# EAGLE library part M10382 (library circuit_tree)
IC
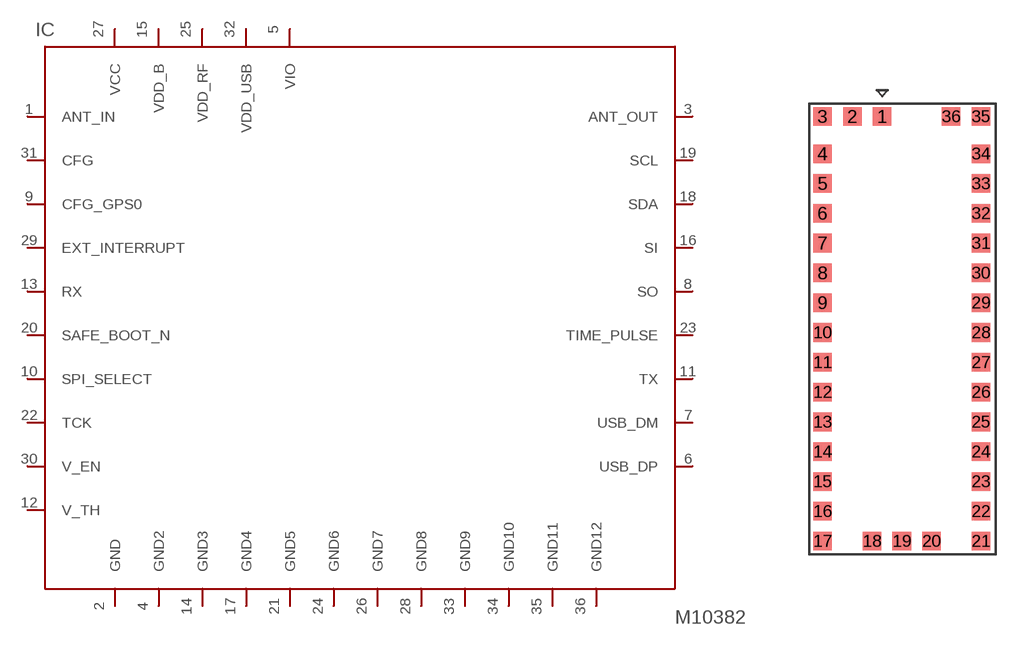
[diagram p2: symbol with the pads of M10382; footprint M10382]

Designator prefix IC

## M10382  [M10382]
1  ANT_IN  pas
2  GND  pas
3  ANT_OUT  pas
4  GND2  pas
5  VIO  pas
6  USB_DP  pas
7  USB_DM  pas
8  SO  pas
9  CFG_GPS0  pas
10  SPI_SELECT  pas
11  TX  pas
12  V_TH  pas
13  RX  pas
14  GND3  pas
15  VDD_B  pas
16  SI  pas
17  GND4  pas
18  SDA  pas
19  SCL  pas
20  SAFE_BOOT_N  pas
21  GND5  pas
22  TCK  pas
23  TIME_PULSE  pas
24  GND6  pas
25  VDD_RF  pas
26  GND7  pas
27  VCC  pas
28  GND8  pas
29  EXT_INTERRUPT  pas
30  V_EN  pas
31  CFG  pas
32  VDD_USB  pas
33  GND9  pas
34  GND10  pas
35  GND11  pas
36  GND12  pas

## Footprint M10382 (pad centres in mm)
smd 1 x 1: 1 0,0; 2 -1.6,0; 3 -3.2,0; 4 -3.2,-2; 5 -3.2,-3.6; 6 -3.2,-5.2; 7 -3.2,-6.8; 8 -3.2,-8.4; 9 -3.2,-10; 10 -3.2,-11.6; 11 -3.2,-13.2; 12 -3.2,-14.8; 13 -3.2,-16.4; 14 -3.2,-18; 15 -3.2,-19.6; 16 -3.2,-21.2; 17 -3.2,-22.8; 18 -0.55,-22.8; 19 1.05,-22.8; 20 2.65,-22.8; 21 5.3,-22.8; 22 5.3,-21.2; 23 5.3,-19.6; 24 5.3,-18; 25 5.3,-16.4; 26 5.3,-14.8; 27 5.3,-13.2; 28 5.3,-11.6; 29 5.3,-10; 30 5.3,-8.4; 31 5.3,-6.8; 32 5.3,-5.2; 33 5.3,-3.6; 34 5.3,-2; 35 5.3,0; 36 3.7,0